# Altium schematic symbol library [Relay] G8K-17R_DC12.SchLib: 1 symbol
Pins are listed as number, name and electrical type; pins without a type are passive.

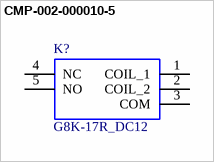
[diagram p0: symbol CMP-002-000010-5]

## CMP-002-000010-5
designator K?, comment G8K-17R_DC12
Automotive Relays Ultra Miniature Power PCB Relay for Automotive; Manufacturer_Part_Number: G8K-17R DC12; Manufacturer_Name: Omron Electronics; Geometry.Height: 14.5mm; Datasheet Link: https://components.omron.com/kr-en/datasheet_pdf/J264-E1.pdf; Mouser Price/Stock: *; Mouser Part Number: *; Design Item ID: G8K-17R_DC12; Source: G8K-17R_DC12.SchLib
footprint G8K17RDC12
footprint G8K17RDC12
pins: 1 COIL_1, 2 COIL_2, 3 COM, 4 NC, 5 NO